# Altium footprint library WE-TVSP.PcbLib: 6 footprints
Each footprint in its own frame and in the unit in brackets; x right, y up, seen from the top. Pads: shape width x height; smd on the part's side, far side on the other; paste and mask are expansions set on the pad; w line width, h text height; cw(c..) or ccw(c..) is an arc to the next point about the centre after c.
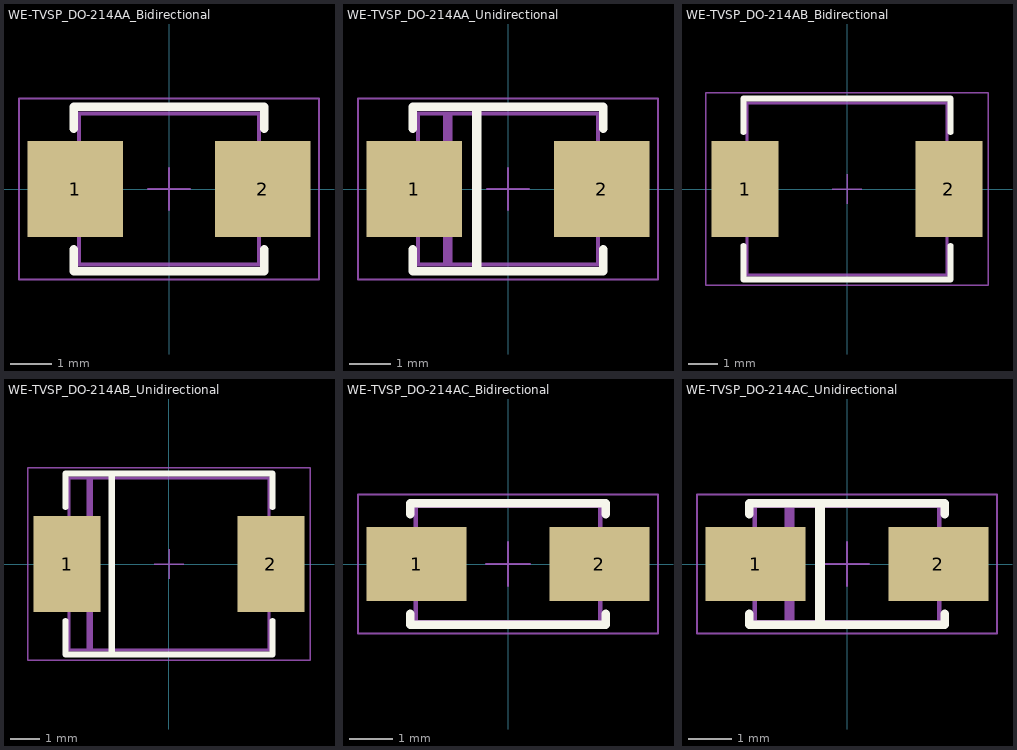
[diagram p0: the footprints below, top view; thin cyan lines are the x and y axes]

## WE-TVSP_DO-214AA_Bidirectional [mm] "Power TVS Diode, 2-Leads. body 4.32x3.62mm"
height 2.65
pads (2):
  rect 2.3x2.3 smd: 1(-2.25,0) 2(2.25,0)
Top Overlay:
  lines w0.2: -2.285,-1.45 -2.285,-1.97 2.285,-1.97 2.285,-1.45 ; -2.285,1.45 -2.285,1.97 2.285,1.97 2.285,1.45
Top Designator:
  text ".Designator" at -4.998,-0.333 h1
Top Component Outline:
  lines w0.1: -2.16,-1.81 2.16,-1.81 2.16,1.81 -2.16,1.81 -2.16,-1.81
Top Courtyard:
  lines w0.05: -0.5,0 0.5,0 ; 0,-0.5 0,0.5 ; -3.6,-2.17 3.6,-2.17 3.6,2.17 -3.6,2.17 -3.6,-2.17
3D body "WE-TVSP_DO-214AA_Bidirectional.stp": height 2.38, standoff -0.01, extent -2.7,-1.81 2.7,1.81

## WE-TVSP_DO-214AA_Unidirectional [mm] "Power TVS Diode, 2-Leads. body 4.32x3.62mm"
height 2.65
pads (2):
  rect 2.3x2.3 smd: 1(-2.25,0) 2(2.25,0)
Top Overlay:
  rectangle: -0.865,-1.97 -0.635,1.97
  lines w0.2: -2.285,-1.45 -2.285,-1.97 2.285,-1.97 2.285,-1.45 ; -2.285,1.45 -2.285,1.97 2.285,1.97 2.285,1.45
Top Designator:
  text ".Designator" at -4.998,-0.333 h1
Top Component Outline:
  rectangle: -1.565,-1.81 -1.335,1.81
  lines w0.1: -2.16,-1.81 -2.16,1.81 2.16,1.81 2.16,-1.81 -2.16,-1.81
Top Courtyard:
  lines w0.05: -0.5,0 0.5,0 ; 0,-0.5 0,0.5 ; -3.6,-2.17 -3.6,2.17 3.6,2.17 3.6,-2.17 -3.6,-2.17
3D body "WE-TVSP_DO-214AA_Unidirectional.stp": height 2.38, standoff -0.01, extent -2.7,-1.81 2.7,1.81

## WE-TVSP_DO-214AB_Bidirectional [mm] "Power TVS Diode, 2-Leads. body 6.86x5.9mm"
height 2.8
pads (2):
  rect 2.3x3.3 smd: 1(-3.5,0) 2(3.5,0)
Top Overlay:
  lines w0.2: -3.555,-1.95 -3.555,-3.11 3.555,-3.11 3.555,-1.95 ; -3.555,1.95 -3.555,3.11 3.555,3.11 3.555,1.95
Top Designator:
  text ".Designator" at -7.498,-0.5 h1.5
Top Component Outline:
  lines w0.1: -3.43,-2.95 3.43,-2.95 3.43,2.95 -3.43,2.95 -3.43,-2.95
Top Courtyard:
  lines w0.05: -0.5,0 0.5,0 ; 0,-0.5 0,0.5 ; -4.85,-3.31 4.85,-3.31 4.85,3.31 -4.85,3.31 -4.85,-3.31
3D body "WE-TVSP_DO-214AB_Bidirectional.stp": height 2.48, standoff -0.01, extent -3.97,-2.952 3.97,2.953

## WE-TVSP_DO-214AB_Unidirectional [mm] "Power TVS Diode, 2-Leads. body 6.86x5.9mm"
height 2.8
pads (2):
  rect 2.3x3.3 smd: 1(-3.5,0) 2(3.5,0)
Top Overlay:
  rectangle: -2.085,-3.11 -1.855,3.11
  lines w0.2: -3.555,-1.95 -3.555,-3.11 3.555,-3.11 3.555,-1.95 ; -3.555,1.95 -3.555,3.11 3.555,3.11 3.555,1.95
Top Designator:
  text ".Designator" at -7.498,-0.5 h1.5
Top Component Outline:
  rectangle: -2.835,-2.95 -2.605,2.95
  lines w0.1: -3.43,-2.95 3.43,-2.95 3.43,2.95 -3.43,2.95 -3.43,-2.95
Top Courtyard:
  lines w0.05: -0.5,0 0.5,0 ; 0,-0.5 0,0.5 ; -4.85,-3.31 4.85,-3.31 4.85,3.31 -4.85,3.31 -4.85,-3.31
3D body "WE-TVSP_DO-214AB_Unidirectional.stp": height 2.48, standoff -0.01, extent -3.97,-2.952 3.97,2.953

## WE-TVSP_DO-214AC_Bidirectional [mm] "Power TVS Diode, 2-Leads. body 4.24x2.67mm"
height 2.5
pads (2):
  rect 2.3x1.7 smd: 1(-2.1,0) 2(2.1,0)
Top Overlay:
  lines w0.2: -2.25,-1.15 -2.25,-1.4 2.25,-1.4 2.25,-1.15 ; -2.25,1.15 -2.25,1.4 2.25,1.4 2.25,1.15
Top Designator:
  text ".Designator" at -4.998,-0.333 h1
Top Component Outline:
  lines w0.1: -2.12,-1.335 -2.12,1.335 2.12,1.335 2.12,-1.335 -2.12,-1.335
Top Courtyard:
  lines w0.05: -0.5,0 0.5,0 ; 0,-0.5 0,0.5 ; -3.45,-1.6 -3.45,1.6 3.45,1.6 3.45,-1.6 -3.45,-1.6
3D body "WE-TVSP_DO-214AC_Bidirectional.stp": height 2.24, standoff 0, extent -2.555,-1.335 2.555,1.335

## WE-TVSP_DO-214AC_Unidirectional [mm] "Power TVS Diode, 2-Leads. body 4.24x2.67mm"
height 2.5
pads (2):
  rect 2.3x1.7 smd: 1(-2.1,0) 2(2.1,0)
Top Overlay:
  rectangle: -0.735,-1.4 -0.505,1.4
  lines w0.2: -2.25,-1.15 -2.25,-1.4 2.25,-1.4 2.25,-1.15 ; -2.25,1.15 -2.25,1.4 2.25,1.4 2.25,1.15
Top Designator:
  text ".Designator" at -4.998,-0.333 h1
Top Component Outline:
  rectangle: -1.435,-1.335 -1.205,1.335
  lines w0.1: -2.12,-1.335 -2.12,1.335 2.12,1.335 2.12,-1.335 -2.12,-1.335
Top Courtyard:
  lines w0.05: -0.5,0 0.5,0 ; 0,-0.5 0,0.5 ; -3.45,-1.6 -3.45,1.6 3.45,1.6 3.45,-1.6 -3.45,-1.6
3D body "WE-TVSP_DO-214AC_Unidirectional.stp": height 2.24, standoff 0, extent -2.555,-1.335 2.555,1.335